# Altium footprint library 470uF.PcbLib: 1 footprints
Each footprint in its own frame and in the unit in brackets; x right, y up, seen from the top. Pads: shape width x height; smd on the part's side, far side on the other; paste and mask are expansions set on the pad; w line width, h text height; cw(c..) or ccw(c..) is an arc to the next point about the centre after c.
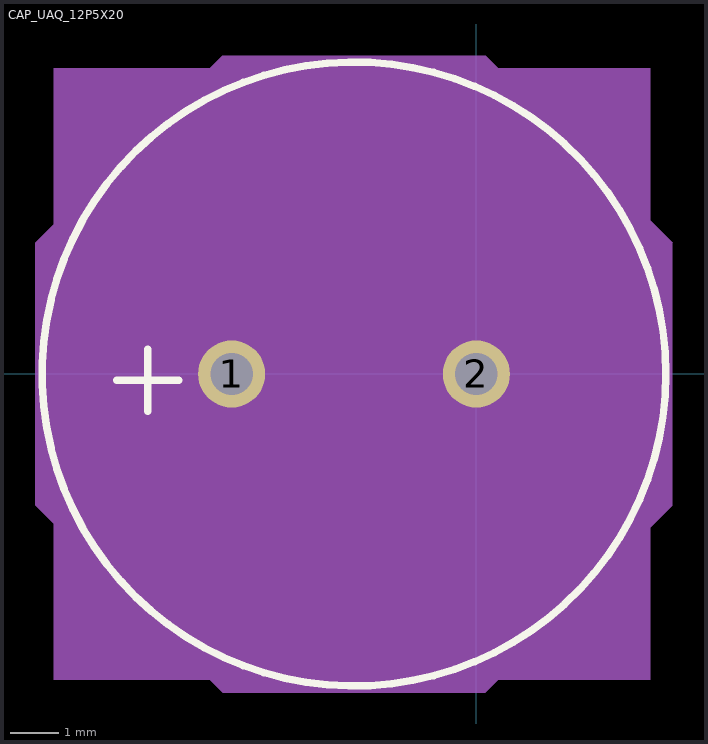
[diagram p0: the footprint, top view; thin cyan lines are the x and y axes]

## CAP_UAQ_12P5X20 [mil]
pads (2):
  round 54 hole 34 mask+0: 1(-196.85,0) 2(0,0)
Top Overlay:
  circle w6: c-98.43,0 r251
  lines w6: -289.43,-5 -239.43,-5 ; -264.43,-30 -264.43,20
Mechanical 5:
  region: 140,-246 -340,-246 -340,246 140,246
Mechanical 13:
  circle w0: c-98.43,0 r246
  lines w1: -289.43,-5 -239.43,-5 ; -264.43,-30 -264.43,20
Mechanical 15:
  region: -354.43,105.41 -203.84,256 6.99,256 157.57,105.41 157.57,-105.41 6.99,-256 -203.84,-256 -354.43,-105.41
  lines w1: -354.43,-105.41 -203.84,-256 6.99,-256 157.57,-105.41 157.57,105.41 6.99,256 -203.84,256 -354.43,105.41 -354.43,-105.41
3D body: height 10, standoff 0, extent 0,0 10,10
3D body "CAP_UAQ_12P5X20.step": height 874.49, standoff -164.13, extent -344.42,-246 148.18,246